# EAGLE library part MC14049UB_DIP (library crazyCar)
This is the inverter used for the Crazzy Robot Car.
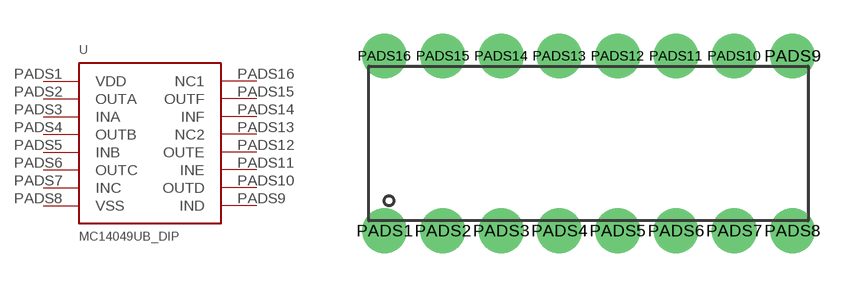
[diagram p0: symbol with the pads of MC14049UB_DIP; footprint MC14049UB_DIP]

Designator prefix -

## MC14049UB_DIP  [MC14049UB_DIP]
PADS1  VDD
PADS2  OUTA
PADS3  INA
PADS4  OUTB
PADS5  INB
PADS6  OUTC
PADS7  INC
PADS8  VSS
PADS9  IND
PADS10  OUTD
PADS11  INE
PADS12  OUTE
PADS13  NC2
PADS14  INF
PADS15  OUTF
PADS16  NC1

## Footprint MC14049UB_DIP (pad centres in mm)
drill 1 pad 2: PADS1 0,0; PADS2 2.6,0; PADS3 5.2,0; PADS4 7.8,0; PADS5 10.4,0; PADS6 13,0; PADS7 15.6,0; PADS8 18.2,0; PADS9 18.2,7.8; PADS10 15.6,7.8; PADS11 13,7.8; PADS12 10.4,7.8; PADS13 7.8,7.8; PADS14 5.2,7.8; PADS15 2.6,7.8; PADS16 0,7.8